# EAGLE library part 734-6763 (library 734-6763)
DPDT Push Button Switch Source: Datasheet
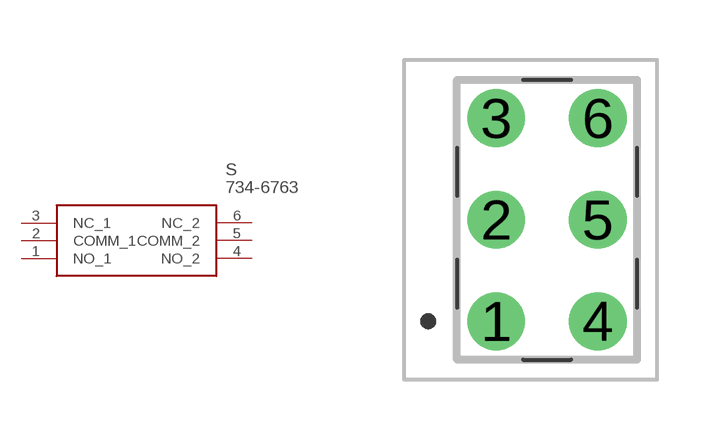
[diagram p0: symbol with the pads of 7346763; footprint 7346763]

Designator prefix S

## 734-6763 (Description: DPDT Push Button Switch; Height: 11.23mm; Manufacturer_Name: RS Components; Manufacturer_Part_Number: 734-6763)  [7346763]
1  NO_1
2  COMM_1
3  NC_1
4  NO_2
5  COMM_2
6  NC_2

## Footprint 7346763 (pad centres in mm)
734-6763-3
drill 0.89 pad 1.446: 1 0,0; 2 0,2.54; 3 0,5.08; 4 2.54,0; 5 2.54,2.54; 6 2.54,5.08